# Altium footprint library ECard_Lib.PcbLib: 20 footprints (part 2 of 2)
Each footprint in its own frame and in the unit in brackets; x right, y up, seen from the top. Pads: shape width x height; smd on the part's side, far side on the other; paste and mask are expansions set on the pad; w line width, h text height; cw(c..) or ccw(c..) is an arc to the next point about the centre after c.
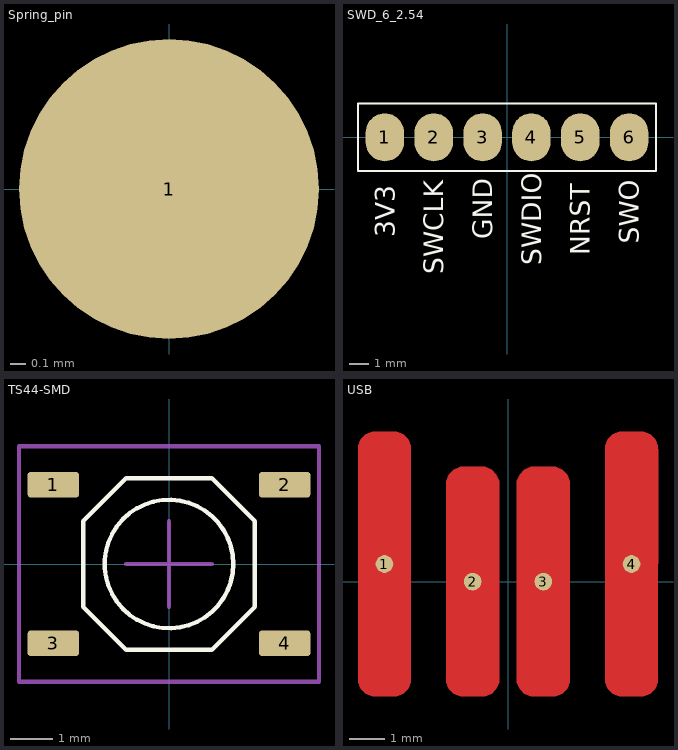
[diagram p1: the footprints below, top view; thin cyan lines are the x and y axes]

## Spring_pin [mm]
pads (1):
  round 2 smd mask+0.05: 1(0,0)

## SWD_6_2.54 [mm]
pads (6):
  oval 2x2.5 smd mask+0.05: 1(-6.35,0) 2(-3.81,0) 3(-1.27,0) 4(1.27,0) 5(3.81,0) 6(6.35,0)
Top Overlay:
  lines w0.1: -7.75,-1.75 -7.75,1.75 7.75,1.75 7.75,-1.75 -7.75,-1.75
  text "SWO" at 6.85,-5.544 h1
  text "NRST" at 4.31,-6.13 h1
  text "SWDIO" at 1.77,-6.644 h1
  text "GND" at -0.77,-5.292 h1
  text "SWCLK" at -3.31,-7.125 h1
  text "3V3" at -5.85,-5.187 h1

## TS44-SMD [mm]
pads (4):
  rrect25% 1.2x0.6 smd mask+0.05: 1(-2.7,1.85) 2(2.7,1.85) 3(-2.7,-1.85) 4(2.7,-1.85)
Top Overlay:
  circle w0.1: c0,0 r1.5
  lines w0.1: -2,-1 -1,-2 1,-2 2,-1 2,1 1,2 -1,2 -2,1 -2,-1
Mechanical 15:
  lines w0.1: -1,0 1,0 ; 0,-1 0,1 ; -3.5,-2.75 -3.5,2.75 3.5,2.75 3.5,-2.75 -3.5,-2.75
3D body "TS-1087S-020.stp": height 2, standoff 0, extent -3.2,-2.6 3.2,2.6

## USB [mm]
pads (4):
  round 0.5 smd mask+0.05: 1(-3.5,0.5) 2(-1,0) 3(1,0) 4(3.5,0.5)
Top Layer:
  region: 2.75,-2.75 2.75,3.75 2.75,3.849 2.826,4.033 2.967,4.174 3.151,4.25 3.25,4.25 3.75,4.25 3.849,4.25 4.033,4.174 4.174,4.033 4.25,3.849 4.25,3.75 4.25,-2.75 4.25,-2.849 4.174,-3.033 4.033,-3.174 3.849,-3.25 3.75,-3.25 3.25,-3.25 3.151,-3.25 2.967,-3.174 2.826,-3.033 2.75,-2.849
  region: -1.75,-2.75 -1.75,2.75 -1.75,2.849 -1.674,3.033 -1.533,3.174 -1.349,3.25 -1.25,3.25 -0.75,3.25 -0.651,3.25 -0.467,3.174 -0.326,3.033 -0.25,2.849 -0.25,2.75 -0.25,-2.75 -0.25,-2.849 -0.326,-3.033 -0.467,-3.174 -0.651,-3.25 -0.75,-3.25 -1.25,-3.25 -1.349,-3.25 -1.533,-3.174 -1.674,-3.033 -1.75,-2.849
  region: 0.25,-2.75 0.25,2.75 0.25,2.849 0.326,3.033 0.467,3.174 0.651,3.25 0.75,3.25 1.25,3.25 1.349,3.25 1.533,3.174 1.674,3.033 1.75,2.849 1.75,2.75 1.75,-2.75 1.75,-2.849 1.674,-3.033 1.533,-3.174 1.349,-3.25 1.25,-3.25 0.75,-3.25 0.651,-3.25 0.467,-3.174 0.326,-3.033 0.25,-2.849
  region: -4.25,-2.75 -4.25,3.75 -4.25,3.849 -4.174,4.033 -4.033,4.174 -3.849,4.25 -3.75,4.25 -3.25,4.25 -3.151,4.25 -2.967,4.174 -2.826,4.033 -2.75,3.849 -2.75,3.75 -2.75,-2.75 -2.75,-2.849 -2.826,-3.033 -2.967,-3.174 -3.151,-3.25 -3.25,-3.25 -3.75,-3.25 -3.849,-3.25 -4.033,-3.174 -4.174,-3.033 -4.25,-2.849